# Altium footprint library OLED connector.PcbLib: 1 footprints
Each footprint in its own frame and in the unit in brackets; x right, y up, seen from the top. Pads: shape width x height; smd on the part's side, far side on the other; paste and mask are expansions set on the pad; w line width, h text height; cw(c..) or ccw(c..) is an arc to the next point about the centre after c.
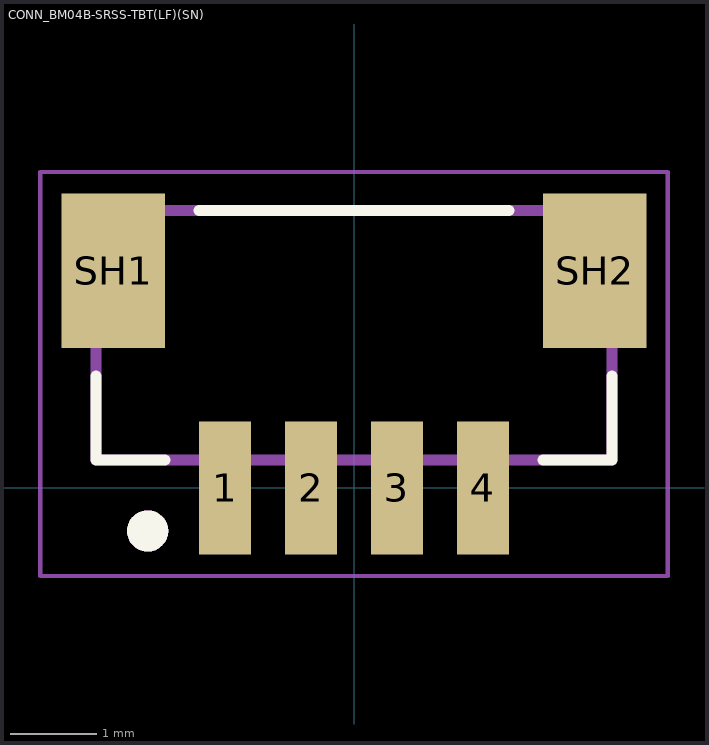
[diagram p0: the footprint, top view; thin cyan lines are the x and y axes]

## CONN_BM04B-SRSS-TBT(LF)(SN) [mm]
pads (6):
  rect 0.6x1.55 smd: 1(-1.5,0) 2(-0.5,0) 3(0.5,0) 4(1.5,0)
  rect 1.2x1.8 smd: SH1(-2.8,2.525) SH2(2.8,2.525)
Top Overlay:
  circle w0.24: c-2.4,-0.5 r0.12
  lines w0.127: -3,1.3 -3,0.325 -2.2,0.325 ; -1.8,3.225 1.8,3.225 ; 2.2,0.325 3,0.325 3,1.3
Mechanical 13:
  circle w0.24: c-2.4,-0.5 r0.12
  lines w0.127: -3,0.325 -3,3.225 3,3.225 3,0.325 -3,0.325
Mechanical 15:
  lines w0.05: -3.65,-1.025 -3.65,3.675 3.65,3.675 3.65,-1.025 -3.65,-1.025
3D body "BM04B-SRSS-TBT(LF)(SN)--3DModel-STEP-56544.STEP": height 4.36, standoff 0.01, extent -3,-0.372 3,3.228